# Altium footprint library V2PCBLib.PcbLib: 46 footprints (part 3 of 3)
Each footprint in its own frame and in the unit in brackets; x right, y up, seen from the top. Pads: shape width x height; smd on the part's side, far side on the other; paste and mask are expansions set on the pad; w line width, h text height; cw(c..) or ccw(c..) is an arc to the next point about the centre after c.
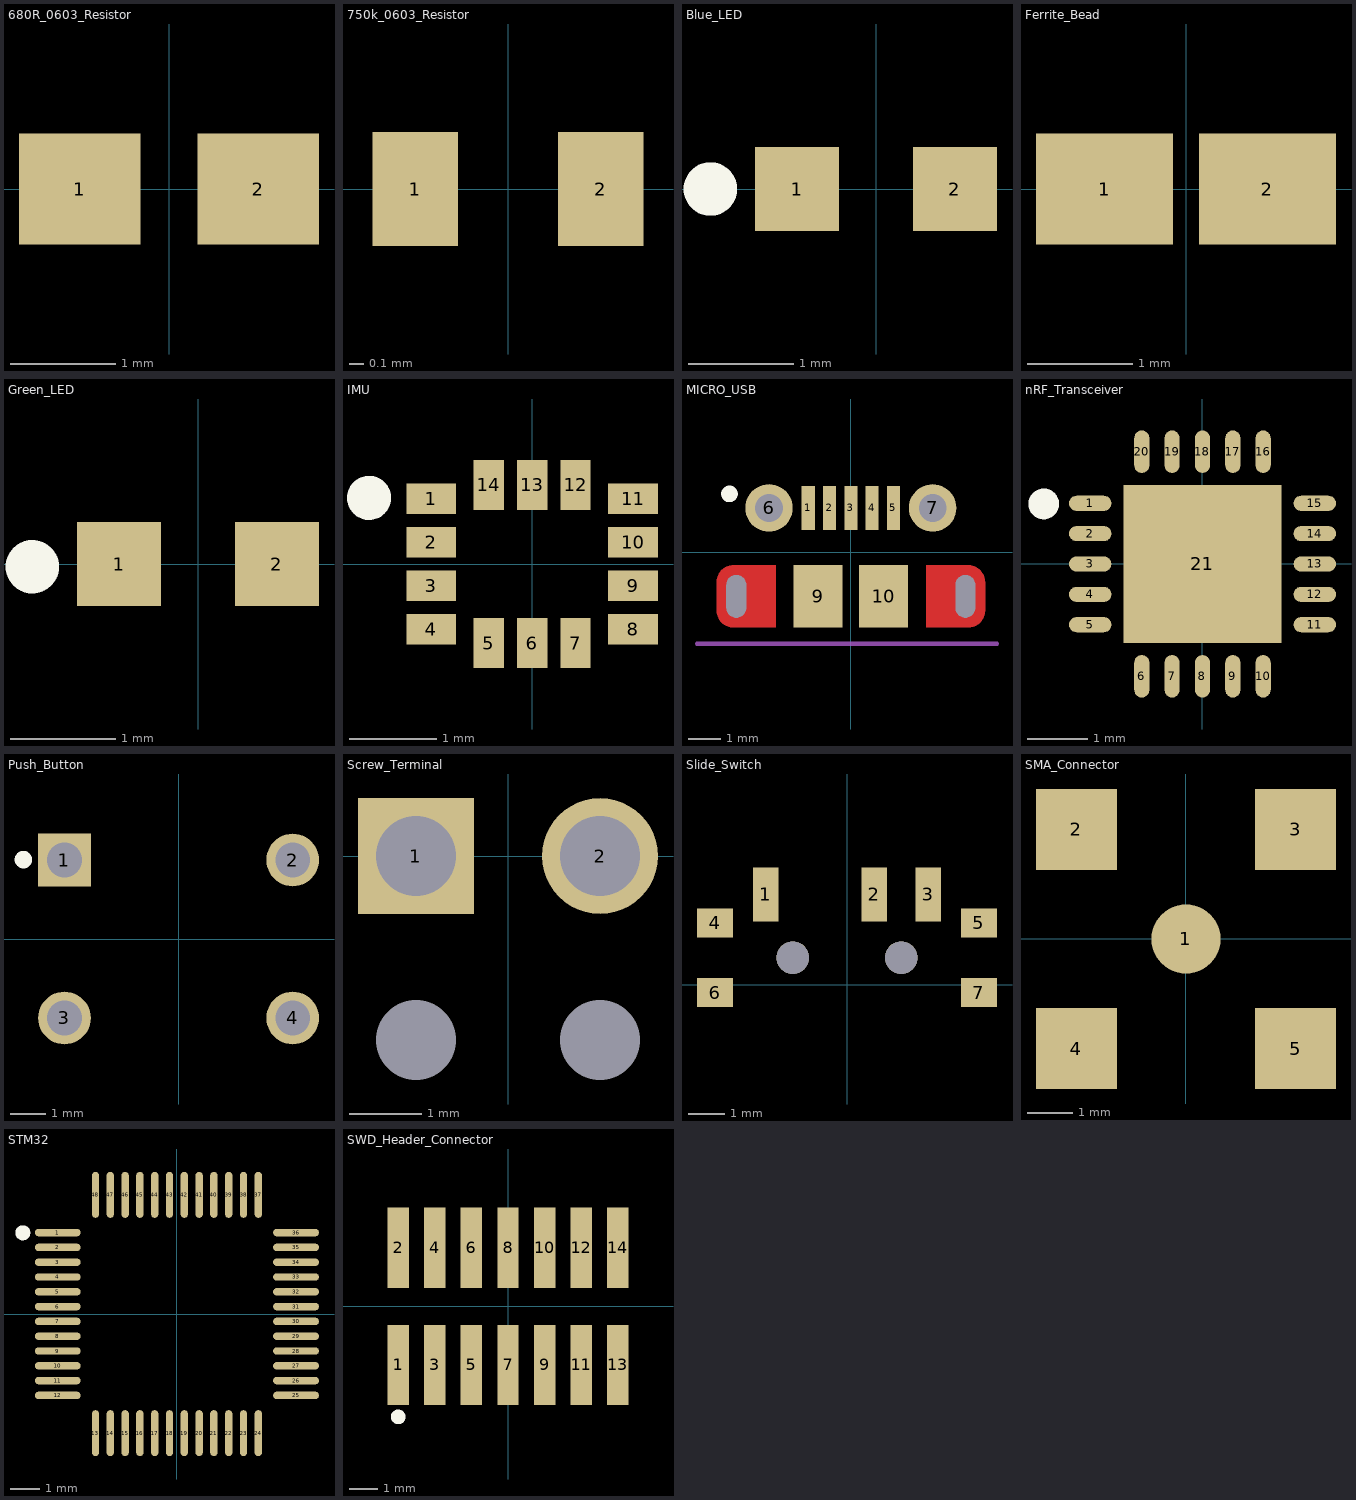
[diagram p2: the footprints below, top view; thin cyan lines are the x and y axes]

## 680R_0603_Resistor [mil]
pads (2):
  rect 45.53x41.82 smd paste+0 mask+0: 1(-33.5,0) 2(33.5,0)
3D body "Res_Panasonic_ERJ-3EKF12R0V_eec.STEP": height 10, standoff 0, extent -75.95,-40.59 75.95,40.59

## 750k_0603_Resistor [mm] "Chip Resistor, 2-Leads, Body 1.60x0.80mm, IPC High Density"
height 0.55
pads (2):
  rect 0.6x0.8 smd mask+0: 1(-0.65,0) 2(0.65,0)
3D body: height 0.55, standoff 0, extent 0.6,-0.45 0.85,0.45
3D body: height 0.55, standoff 0, extent -0.85,-0.45 -0.6,0.45
3D body: height 0.55, standoff 0, extent -0.6,-0.45 0.6,0.45

## Blue_LED [mm]
pads (2):
  rect 0.8x0.8 smd paste+0 mask+0: 1(-0.75,0) 2(0.75,0)
Top Overlay:
  circle w0.254: c-1.575,0 r0.127
3D body "Diode_Lite-On_LTST-C191TBKT_eec.STEP": height 0.25, standoff 0, extent -1.25,-0.55 1.25,0.55

## Ferrite_Bead [mm]
pads (2):
  rect 1.306x1.058 smd paste+0 mask+0: 1(-0.776,0) 2(0.776,0)
3D body "FBead_Murata_BLM18EG221SN1D_eec.STEP": height 0.25, standoff 0, extent -1.929,-1.029 1.929,1.029

## Green_LED [mm]
pads (2):
  rect 0.8x0.8 smd paste+0 mask+0: 1(-0.75,0) 2(0.75,0)
Top Overlay:
  circle w0.254: c-1.575,-0.025 r0.127
3D body "Diode_Vishay_VLMY1300-GS08_eec.STEP": height 0.25, standoff 0, extent -1.25,-0.6 1.25,0.6

## IMU [mm]
pads (14):
  rect 0.575x0.35 smd paste-1000 mask+0: 1(-1.162,0.75) 2(-1.162,0.25) 3(-1.162,-0.25) 4(-1.162,-0.75) 8(1.162,-0.75) 9(1.162,-0.25) 10(1.162,0.25) 11(1.162,0.75)
  rect 0.35x0.575 smd paste-1000 mask+0: 5(-0.5,-0.913) 6(0,-0.913) 7(0.5,-0.913) 12(0.5,0.913) 13(0,0.913) 14(-0.5,0.913)
Top Overlay:
  circle w0.254: c-1.88,0.762 r0.127
Top Paste:
  rectangle: -0.652,0.648 -0.348,1.177
  rectangle: -0.152,0.648 0.152,1.177
  rectangle: 0.348,0.648 0.652,1.177
  rectangle: 0.348,-1.177 0.652,-0.648
  rectangle: -0.152,-1.177 0.152,-0.648
  rectangle: -0.652,-1.177 -0.348,-0.648
  rectangle: 0.898,0.598 1.427,0.902
  rectangle: 0.898,0.098 1.427,0.402
  rectangle: 0.898,-0.402 1.427,-0.098
  rectangle: 0.898,-0.902 1.427,-0.598
  rectangle: -1.427,-0.902 -0.898,-0.598
  rectangle: -1.427,-0.402 -0.898,-0.098
  rectangle: -1.427,0.098 -0.898,0.402
  rectangle: -1.427,0.598 -0.898,0.902
3D body "IC_STMicroelectronics_LSM6DSRTR_eec.STEP": height 0.25, standoff 0, extent -2.05,-1.8 2.05,1.8

## MICRO_USB [mm] "USB, MICRO B, Body 7.491x4.695 mm, Pitch 0.65 mm"
height 2.673
pads (11):
  rect 0.4x1.35 smd mask+0: 1(-1.3,1.35) 2(-0.65,1.35) 3(0,1.35) 4(0.65,1.35) 5(1.3,1.35)
  round 1.45 hole 0.85 mask+0: 6(-2.5,1.35) 7(2.5,1.35)
  rrect50% 0x0 hole 0.6 slot 1.3 at 90 deg mask+0: 8(-3.5,-1.35) 11(3.5,-1.35)
  rect 1.5x1.9 smd mask+0: 9(-1,-1.35) 10(1,-1.35)
Top Layer:
  circle w0.5: c3.6,-0.9 r0.25
  circle w0.5: c3.6,-1.8 r0.25
  circle w0.5: c-3.6,-0.9 r0.25
  circle w0.5: c-3.6,-1.8 r0.25
  region: 2.3,-0.4 2.3,-2.3 3.6,-2.3 3.6,-0.4
  region: 3.6,-0.9 3.6,-1.8 4.1,-1.8 4.1,-0.9
  region: -3.6,-1.8 -3.6,-0.9 -4.1,-0.9 -4.1,-1.8
  region: -2.3,-2.3 -2.3,-0.4 -3.6,-0.4 -3.6,-2.3
Top Overlay:
  circle w0.254: c-3.708,1.778 r0.127
Mechanical 1:
  lines w0.127: -4.7,-2.8 4.465,-2.8
3D body "1050170001.stp": height 2.67, standoff -0.63, extent -4.1,-3.9 4.1,1.5

## nRF_Transceiver [mm] "QFN, 20-Leads, Body 4x4mm, Pitch 0.5mm, Thermal Pad 2.6x2.6mm, IPC High Density"
height 0.95
pads (21):
  oval 0.7x0.25 smd mask+0: 1(-1.85,1) 2(-1.85,0.5) 3(-1.85,0) 4(-1.85,-0.5) 5(-1.85,-1) 11(1.85,-1) 12(1.85,-0.5) 13(1.85,0) 14(1.85,0.5) 15(1.85,1)
  oval 0.25x0.7 smd mask+0: 6(-1,-1.85) 7(-0.5,-1.85) 8(0,-1.85) 9(0.5,-1.85) 10(1,-1.85) 16(1,1.85) 17(0.5,1.85) 18(0,1.85) 19(-0.5,1.85) 20(-1,1.85)
  rect 2.6x2.6 smd mask+0: 21(0,0)
Top Overlay:
  circle w0.254: c-2.616,0.991 r0.127
3D body "QFN50P400X400X95_HS-21L.step": height 0.95, standoff 0, extent -2.001,-2.001 2.001,2.001

## Push_Button [mm] "Switch, 4-Leads, Body 5.99x5.99mm"
height 5
pads (4):
  rect 1.5x1.5 hole 0.99 mask+0: 1(-3.25,2.25)
  round 1.5 hole 0.99 mask+0: 2(3.25,2.25) 3(-3.25,-2.25) 4(3.25,-2.25)
Top Overlay:
  circle w0.25: c-4.42,2.261 r0.125
3D body: height 5, standoff 0, extent -2.995,-2.995 2.995,2.995

## Screw_Terminal [mm] "Connector, 2-Leads, Body 6.2x5.4mm, Pitch 2.54mm"
height 8.5
pads (4):
  rect 1.6x1.6 hole 1.1 mask+0: 1(-1.27,0)
  round 1.6 hole 1.1 mask+0: 2(1.27,0)
  round 0 hole 1.1 unplated: MH1(-1.27,-2.54) MH2(1.27,-2.54)
3D body "1725656.stp": height 9, standoff -3, extent -2.77,-3.1 2.77,3.1

## Slide_Switch [mm]
pads (9):
  rect 0.7x1.5 smd paste+0 mask+0: 1(-2.25,2.5) 2(0.75,2.5) 3(2.25,2.5)
  rect 1x0.8 smd paste+0 mask+0: 4(-3.65,1.715) 5(3.65,1.715) 6(-3.65,-0.215) 7(3.65,-0.215)
  round 0.9 hole 0.9 unplated paste-2539.97 mask+0: ""(-1.5,0.75) ""(1.5,0.75)
3D body "Switch_C&K_PCM12SMTR_eec.STEP": height 0.25, standoff 0, extent -4.25,-2.15 4.25,3.35

## SMA_Connector [mil]
pads (5):
  round 60 smd paste+0 mask+0: 1(0,0)
  rect 70x70 smd paste+0 mask+0: 2(-95,95) 3(95,95) 4(-95,-95) 5(95,-95)
3D body "Conn_Molex_73251-1350_eec.STEP": height 10, standoff 0, extent -133.94,-133.94 133.94,133.94

## STM32 [mm] "QFP, 48-Leads, Body 7x7mm, Pitch 0.5mm, IPC High Density"
height 1.6
pads (48):
  oval 1.55x0.25 smd mask+0: 1(-4.025,2.75) 2(-4.025,2.25) 3(-4.025,1.75) 4(-4.025,1.25) 5(-4.025,0.75) 6(-4.025,0.25) 7(-4.025,-0.25) 8(-4.025,-0.75) 9(-4.025,-1.25) 10(-4.025,-1.75) 11(-4.025,-2.25) 12(-4.025,-2.75) 25(4.025,-2.75) 26(4.025,-2.25) 27(4.025,-1.75) 28(4.025,-1.25) 29(4.025,-0.75) 30(4.025,-0.25) 31(4.025,0.25) 32(4.025,0.75) 33(4.025,1.25) 34(4.025,1.75) 35(4.025,2.25) 36(4.025,2.75)
  oval 0.25x1.55 smd mask+0: 13(-2.75,-4.025) 14(-2.25,-4.025) 15(-1.75,-4.025) 16(-1.25,-4.025) 17(-0.75,-4.025) 18(-0.25,-4.025) 19(0.25,-4.025) 20(0.75,-4.025) 21(1.25,-4.025) 22(1.75,-4.025) 23(2.25,-4.025) 24(2.75,-4.025) 37(2.75,4.025) 38(2.25,4.025) 39(1.75,4.025) 40(1.25,4.025) 41(0.75,4.025) 42(0.25,4.025) 43(-0.25,4.025) 44(-0.75,4.025) 45(-1.25,4.025) 46(-1.75,4.025) 47(-2.25,4.025) 48(-2.75,4.025)
Top Overlay:
  circle w0.254: c-5.207,2.743 r0.127
3D body: height 1.6, standoff 0.05, extent -3.5,-3.5 3.5,3.5

## SWD_Header_Connector [mm]
pads (14):
  rect 0.74x2.79 smd paste+0 mask+0: 1(-3.81,-2.035) 2(-3.81,2.035) 3(-2.54,-2.035) 4(-2.54,2.035) 5(-1.27,-2.035) 6(-1.27,2.035) 7(0,-2.035) 8(0,2.035) 9(1.27,-2.035) 10(1.27,2.035) 11(2.54,-2.035) 12(2.54,2.035) 13(3.81,-2.035) 14(3.81,2.035)
Top Overlay:
  circle w0.254: c-3.81,-3.835 r0.127
3D body "Conn_Samtec_FTSH-107-01-L-DV-K_eec.STEP": height 0.25, standoff 0, extent -4.61,-3.53 4.61,3.53